# EAGLE library part 4PDT_RELAY_V2 (library DSDEagleLibrary)
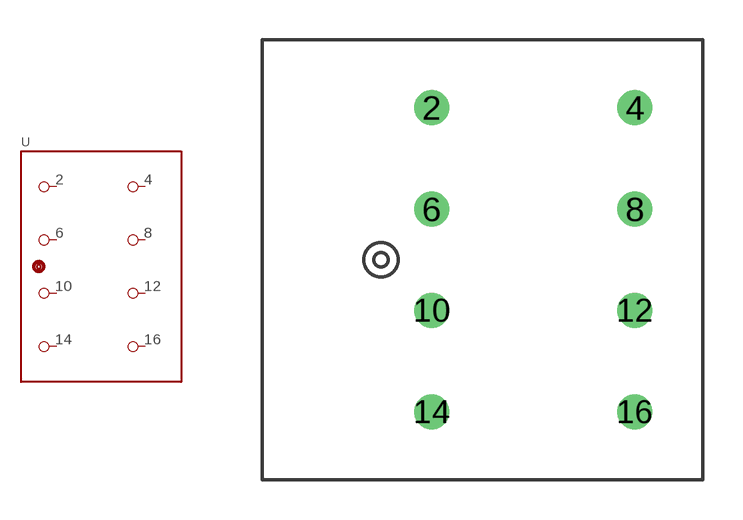
[diagram p39: symbol with the pads of 4PDT_RELAY_V2; footprint 4PDT_RELAY_V2]

Designator prefix -

## 4PDT_RELAY_V2  [4PDT_RELAY_V2]
2  2
4  4
6  6
8  8
10  10
12  12
14  14
16  16

## Footprint 4PDT_RELAY_V2 (pad centres in mm)
drill 0.813: 2 6.35,-2.54; 4 13.97,-2.54; 6 6.35,-6.35; 8 13.97,-6.35; 10 6.35,-10.16; 12 13.97,-10.16; 14 6.35,-13.97; 16 13.97,-13.97